# Altium footprint library Solar_cell_foot_print.PcbLib: 1 footprints
Each footprint in its own frame and in the unit in brackets; x right, y up, seen from the top. Pads: shape width x height; smd on the part's side, far side on the other; paste and mask are expansions set on the pad; w line width, h text height; cw(c..) or ccw(c..) is an arc to the next point about the centre after c.
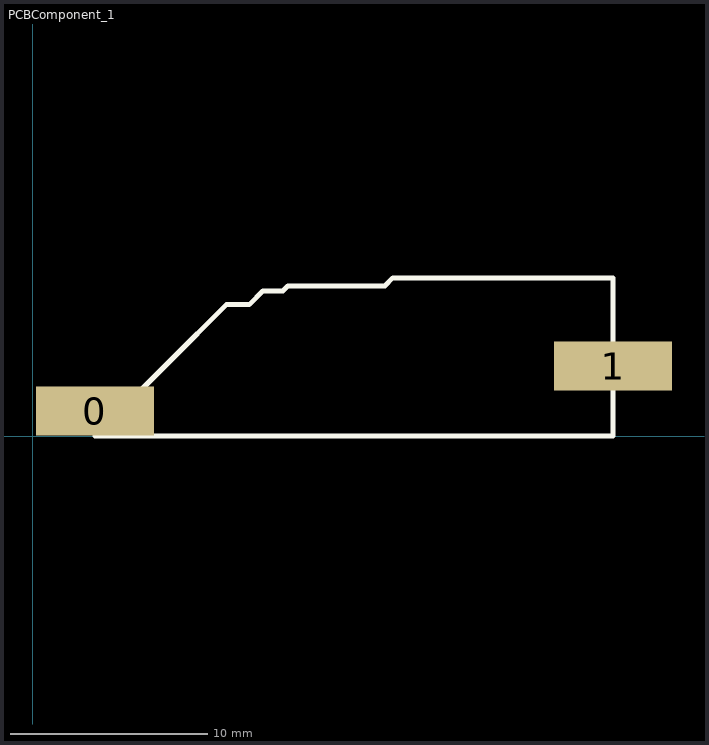
[diagram p0: the footprint, top view; thin cyan lines are the x and y axes]

## PCBComponent_1 [mm]
pads (2):
  rect 6x2.5 smd: 0(3.164,1.27) 1(29.464,3.556)
Top Overlay:
  lines w0.254: 3.164,0 8.244,5.08 8.532,5.369 9.837,6.673 10.16,6.673 10.991,6.673 11.684,7.366 12.7,7.366 12.954,7.62 17.526,7.62 17.878,7.62 18.288,8.03 29.464,8.03 29.464,0 3.164,0
3D body "TrisolX_newmodel.stp": height 0.32, standoff 0.16, extent 3.164,0.064 29.464,8.064